# Altium schematic symbol library V_9.SchLib: 4 symbols
Pins are listed as number, name and electrical type; pins without a type are passive.

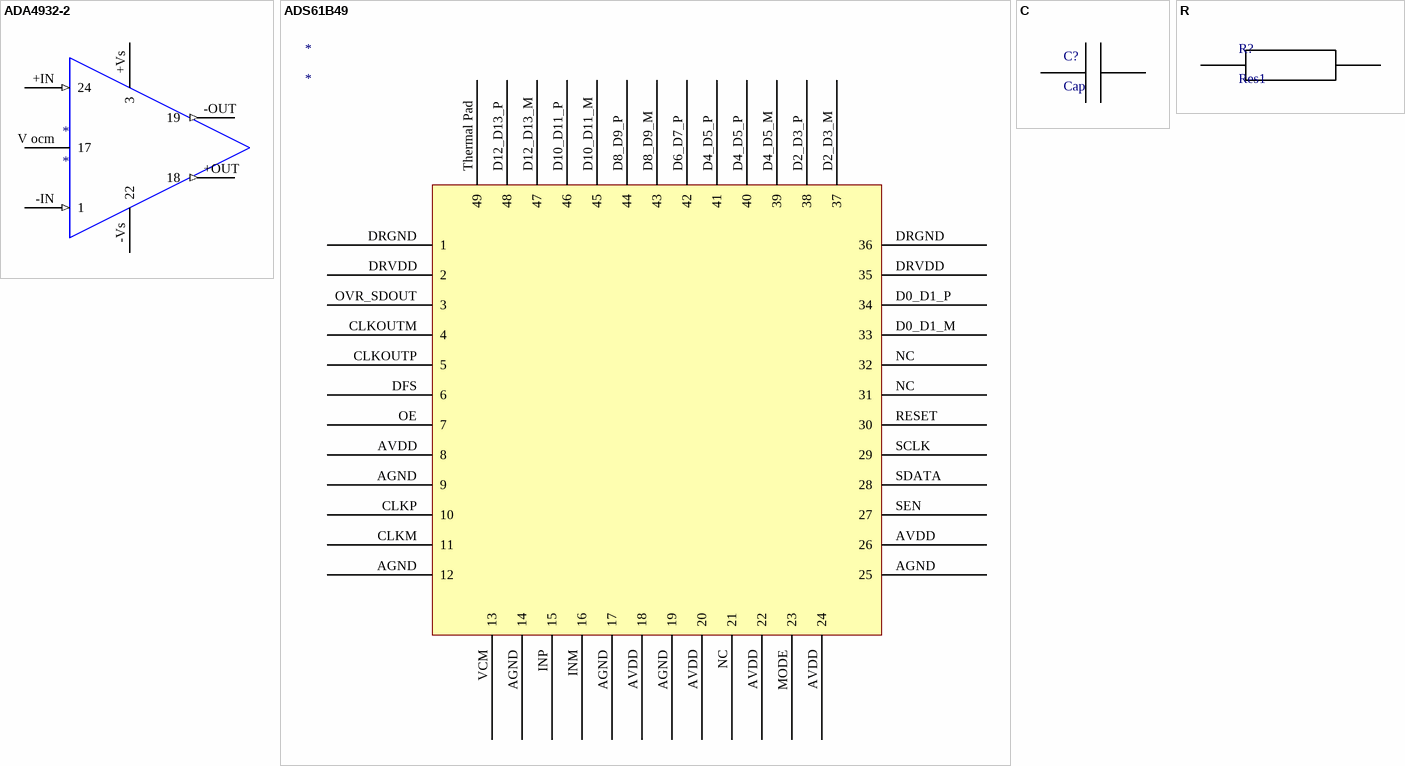
[diagram p0: symbols ADA4932-2 to R]

## ADA4932-2
designator *
footprint ADA4932-2
pins: +IN 24 (in), +OUT 18 (out), +Vs 3, -IN 1 (in), -OUT 19 (out), -Vs 22, V ocm 17

## ADS61B49
designator *
footprint ads61b49
pins: AGND 9, AGND 12, AGND 25, AGND 14, AGND 17, AGND 19, AVDD 8, AVDD 26, AVDD 18, AVDD 20, AVDD 22, AVDD 24, CLKM 11, CLKOUTM 4, CLKOUTP 5, CLKP 10, D0_D1_M 33, D0_D1_P 34, D2_D3_M 37, D2_D3_P 38, D4_D5_M 39, D4_D5_P 40, D4_D5_P 41, D6_D7_P 42, D8_D9_M 43, D8_D9_P 44, D10_D11_M 45, D10_D11_P 46, D12_D13_M 47, D12_D13_P 48, DFS 6, DRGND 36, DRGND 1, DRVDD 35, DRVDD 2, INM 16, INP 15, MODE 23, NC 31, NC 32, NC 21, OE 7, OVR_SDOUT 3, RESET 30, SCLK 29, SDATA 28, SEN 27, Thermal Pad 49, VCM 13

## C
designator C?, comment Cap
footprint Capacitor
pins: 1, 2

## R
designator R?, comment Res1
footprint Resistor
pins: 1, 2